# Altium integrated library ACS712ELCTR-20A-T.IntLib: 1 symbol
Pins are listed as number, name and electrical type; pins without a type are passive.

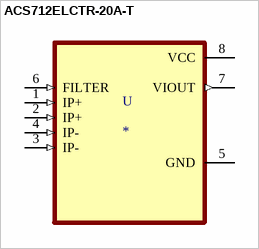
[diagram p0: symbol ACS712ELCTR-20A-T]

## ACS712ELCTR-20A-T
designator U
Current Sensor 20A 1 Channel Hall Effect, Open Loop Bidirectional 8-SOIC _0.154, 3.90mm Width_; MP: ACS712ELCTR-20A-T; MF: Allegro; Package: SOIC-8 Allegro MicroSystems LLC; Value: *; SnapEDA_Link: https://www.snapeda.com/parts/ACS712ELCTR-20A-T/Allegro%20Industries/view-part/51779/?ref=snap; Digi-Key_Purchase_URL: https://www.digikey.co.id/product-detail/en/allegro-microsystems/ACS712ELCTR-20A-T/620-1190-1-ND/1284607?utm_source=snapeda&utm_medium=aggregator&utm_campaign=symbol; Digi-Key_Part_Number: 620-1190-1-ND
footprint SOIC127P600X175-8N
pins: 1 IP+ (in), 2 IP+ (in), 3 IP- (in), 4 IP- (in), 5 GND (power), 6 FILTER (in), 7 VIOUT (out), 8 VCC (power)